# Altium schematic symbol library FROGSBORO.SchLib: 10 symbols
Pins are listed as number, name and electrical type; pins without a type are passive.

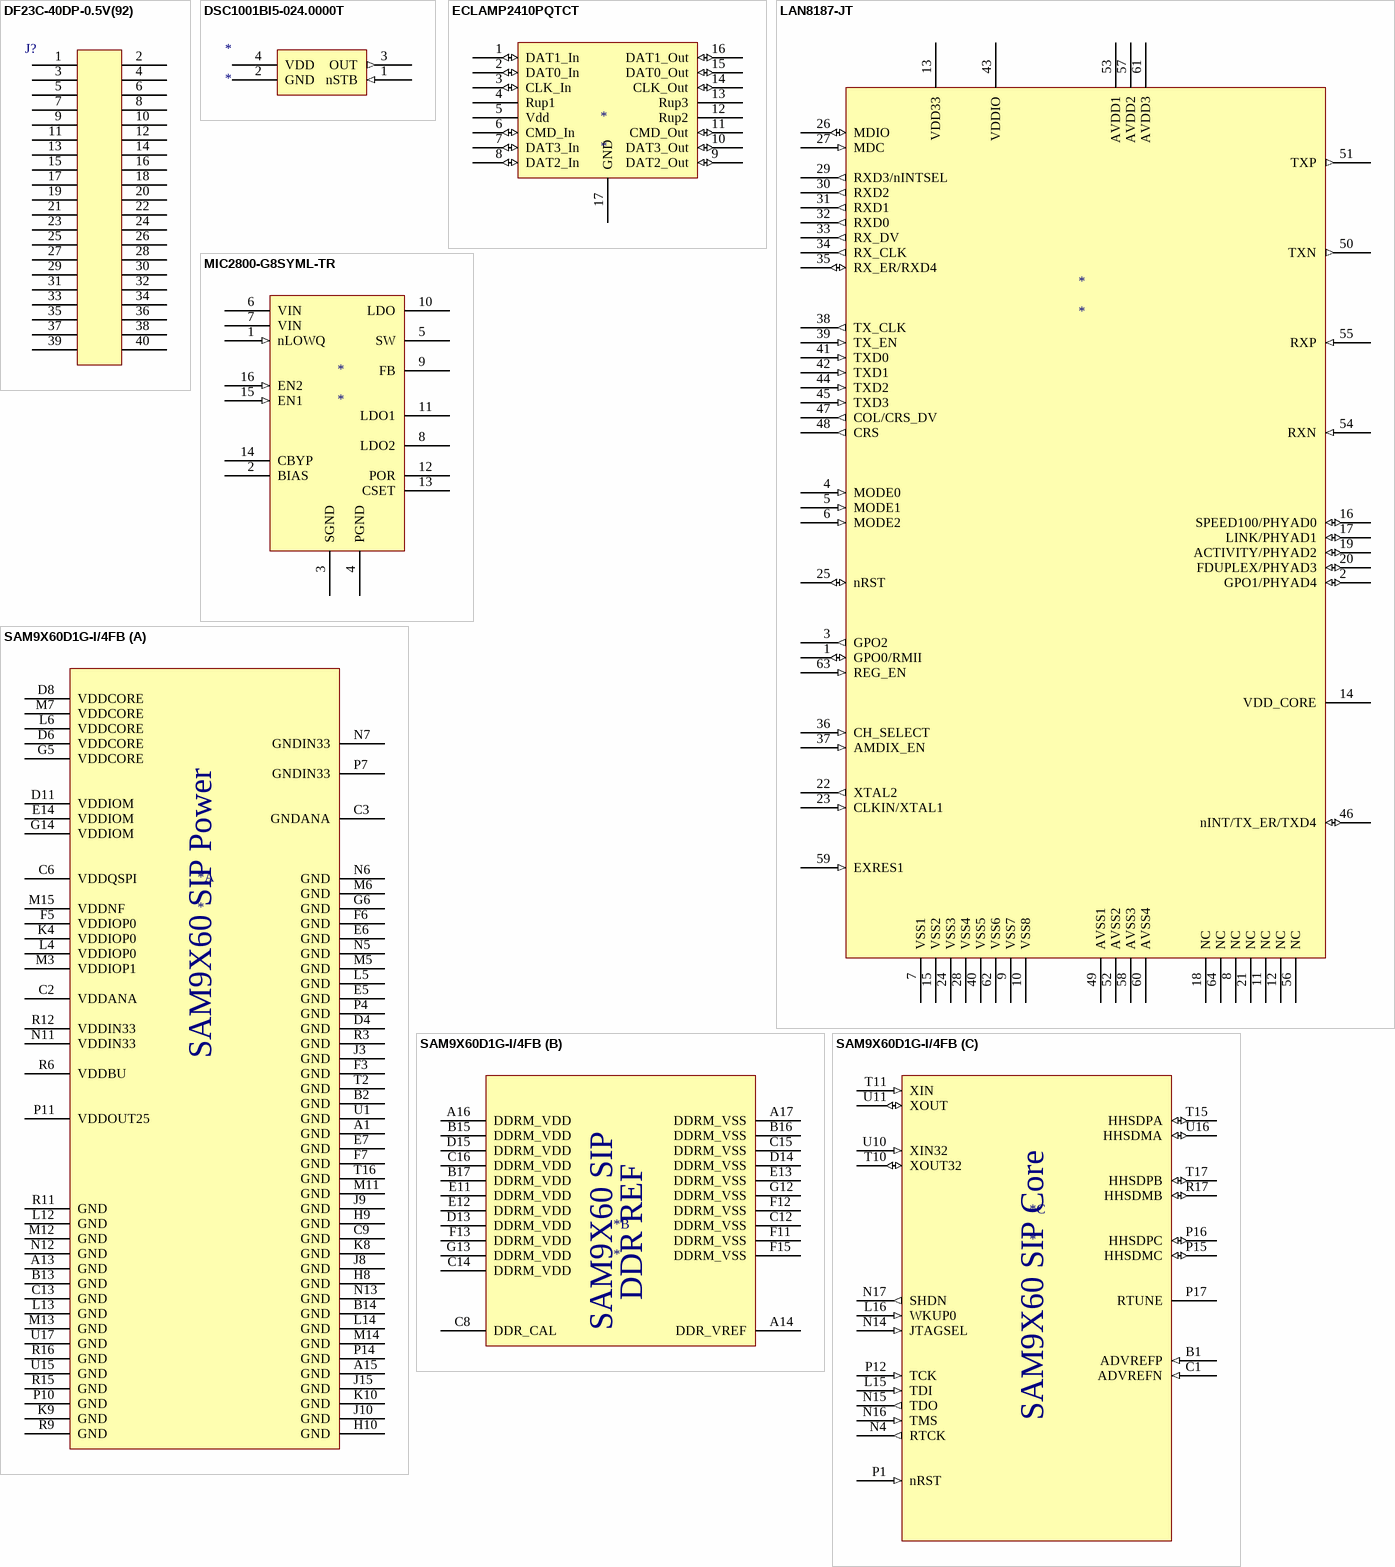
[diagram p0: symbols DF23C-40DP-0.5V(92) to SAM9X60D1G-I/4FB]

## DF23C-40DP-0.5V(92)
designator J?  (value not drawn)
0.5mm Pitch Low-Profile (H=1.5mm) Board to Board / FPC to Board Connectors; Manufacturer: Hirose; Manufacturer Part Number: DF23C-40DP-0.5V(92); Connector Type: Plug,PCB; Number of Positions: 40; Current Rating: 300mA; Voltage Rating: 50V; Insulation Resistance: 500MR; Gender: Male; Mated Stacking Heights: 1.5mm; Row Spacing: 4.3mm; Supplier 1: Digi-Key; RoHS: Yes; Category: Headers and Wire Housings; Stock 1: 419; Pricing 1: 1=1.25000, 10=1.09700, 25=1.03200, 50=0.98900, 100=0.94600, 250=0.86000, 500=0.77400, 1000=0.68800 (USD); Mount: Surface Mount; Contact Plating: Gold; Contact Material: Bronze,Copper Alloy; Housing Color: Black; Housing Material: Polymer; Min Operating Temperature: -35°C; Max Operating Temperature: 85°C; Package Quantity: 2000; Number of Rows: 2; Packaging: Tape and Reel; Number of Contacts: 40; Series: DF23; Contact Gender: Male; Termination: SMD/SMT; Orientation: Straight; Pitch: 0.5mm; Lead Free: Lead Free; REACH SVHC: No SVHC; Flammability Rating: UL94 V-0; RoHS Compliant: Yes; ComponentLink1URL: https://datasheet.ciiva.com/11751/0900766b80f5fb65-11751775.pdf?src-supplier=RSComponents; ComponentLink1Description: https://datasheet.ciiva.com/11751/0900766b80f5fb65-11751775.pdf?src-supplier=RSComponents; ComponentLink2URL: https://datasheet.ciiva.com/397/e68801060-397924.pdf?src-supplier=Digi-Key; ComponentLink2Description: https://datasheet.ciiva.com/397/e68801060-397924.pdf?src-supplier=Digi-Key; ComponentLink3URL: https://datasheet.ciiva.com/13568/e68801060-16897-13568044.pdf?src-supplier=Mouser; ComponentLink3Description: https://datasheet.ciiva.com/13568/e68801060-16897-13568044.pdf?src-supplier=Mouser; ComponentLink4URL: https://datasheet.ciiva.com/8038/e68801060-8038886.pdf?src-supplier=Element14; ComponentLink4Description: https://datasheet.ciiva.com/8038/e68801060-8038886.pdf?src-supplier=Element14; Supplier Part Number 1: H124750CT-ND
footprint DF23C-40DP-0.5V(92)
pins: 1, 2, 3, 4, 5, 6, 7, 8, 9, 10, 11, 12, 13, 14, 15, 16, 17, 18, 19, 20, 21, 22, 23, 24, 25, 26, 27, 28, 29, 30, 31, 32, 33, 34, 35, 36, 37, 38, 39, 40

## DSC1001BI5-024.0000T
designator *
Low-Power Precision CMOS Oscillator 24MHz 1.7V to 3.6V 10ppm 4-Pin Surface Mount T/R; Manufacturer: Microchip; Manufacturer Part Number: DSC1001BI5-024.0000T; Operating Supply Voltage: 3.3V; Load Capacitance: 15pF; Max Supply Current: 6.3mA; Max Duty Cycle: 55%; Supplier 1: Digi-Key; RoHS: Yes; Category: Timers and Oscillators; Pricing 1: 1000=1.95000 (USD); Mount: Surface Mount; Case/Package: SMD/SMT; Min Operating Temperature: -40°C; Max Operating Temperature: 85°C; Frequency: 24MHz; Packaging: Tape and Reel; Package Quantity: 1000; Max Supply Voltage: 3.6V; Min Supply Voltage: 1.7V; Frequency Stability: 10ppm; Termination: Solder; Length: 0.197inch; Width: 0.126inch; Height: 0.035inch; Ratings: AEC-Q100; ComponentLink1URL: http://www.mouser.com/ds/2/268/DSC1001_Datasheet-775857.pdf?src-supplier=Mouser; ComponentLink1Description: http://www.mouser.com/ds/2/268/DSC1001_Datasheet-775857.pdf?src-supplier=Mouser; ComponentLink2URL: http://www.microchip.com/mymicrochip/filehandler.aspx?ddocname=en576698&src-supplier=Digi-Key; ComponentLink2Description: http://www.microchip.com/mymicrochip/filehandler.aspx?ddocname=en576698&src-supplier=Digi-Key; Supplier Part Number 1: DSC1001BI5-024.0000T-ND
footprint DSC1001BI5
pins: 1 nSTB (in), 2 GND (power), 3 OUT (out), 4 VDD (power)

## ECLAMP2410PQTCT
designator *
ESD Suppressors / TVS Diodes 5V 6-Line AEC-Q100 SLP4016P16; Manufacturer: Semtech; Manufacturer Part Number: ECLAMP2410PQTCT; Number of Channels: 8; ESD Protection: Yes; Supplier 1: Digi-Key; RoHS: Yes; Category: Uncategorized; Stock 1: 575; Pricing 1: 1=1.60000, 10=1.42800, 100=1.11320, 500=0.91960, 1000=0.72600 (USD); Min Operating Temperature: -40°C; Max Operating Temperature: 125°C; Package Quantity: 1; Packaging: Tape and Reel; Length: 0.157inch; Width: 0.063inch; Height: 0.026inch; RoHS Compliant: Yes; ComponentLink1URL: https://datasheet.ciiva.com/29369/eclamp2410pq-29369285.pdf?src-supplier=Digi-Key; ComponentLink1Description: https://datasheet.ciiva.com/29369/eclamp2410pq-29369285.pdf?src-supplier=Digi-Key; ComponentLink2URL: https://datasheet.ciiva.com/29369/eclamp2410pq-29369287.pdf?src-supplier=Digi-Key; ComponentLink2Description: https://datasheet.ciiva.com/29369/eclamp2410pq-29369287.pdf?src-supplier=Digi-Key; ComponentLink3URL: https://datasheet.ciiva.com/29369/eclamp2410pq-29369288.pdf?src-supplier=Digi-Key; ComponentLink3Description: https://datasheet.ciiva.com/29369/eclamp2410pq-29369288.pdf?src-supplier=Digi-Key; Supplier Part Number 1: ECLAMP2410PQTCTCT-ND
footprint SON50P160X65_HS-17N (SON, 16-Leads, Body 4.00x1.60mm, Pitch 0.50mm, Thermal Pad 3.20x0.33mm, IPC Medium Density)
pins: 1 DAT1_In (io), 2 DAT0_In (io), 3 CLK_In (io), 4 Rup1, 5 Vdd (power), 6 CMD_In (io), 7 DAT3_In (io), 8 DAT2_In (io), 9 DAT2_Out (io), 10 DAT3_Out (io), 11 CMD_Out (io), 12 Rup2, 13 Rup3, 14 CLK_Out (io), 15 DAT0_Out (io), 16 DAT1_Out (io), 17 GND (power)

## LAN8187-JT
designator *
IC TXRX ETHERNET 64TQFP; Manufacturer: Microchip; Manufacturer Part Number: LAN8187-JT; Min Supply Voltage: 3V; Max Supply Voltage: 3.6V; Number of Transceivers: 1; Max Supply Current: 81.6mA; Data Rate: 100Mbps; Operating Supply Voltage: 3.3V; Supplier 1: Digi-Key; RoHS: No; Category: Ethernet Interface ICs; Stock 1: 373; Pricing 1: 1=2.19000, 25=1.82320, 100=1.80000 (USD); Mount: Surface Mount; Case/Package: TQFP; Number of Pins: 64; Min Operating Temperature: 0°C; Max Operating Temperature: 70°C; Packaging: Tray; Number of Channels: 1; Package Quantity: 160; Series: *; Radiation Hardening: No; Lead Free: Lead Free; RoHS Compliant: No; ComponentLink1URL: https://datasheet.ciiva.com/26818/getdatasheetpartid-761293-26818791.pdf?src-supplier=Verical; ComponentLink1Description: https://datasheet.ciiva.com/26818/getdatasheetpartid-761293-26818791.pdf?src-supplier=Verical; Supplier Part Number 1: LAN8187-JT-ND
pins: 1 GPO0/RMII (io), 2 GPO1/PHYAD4 (io), 3 GPO2 (out), 4 MODE0 (in), 5 MODE1 (in), 6 MODE2 (in), 7 VSS1 (power), 8 NC, 9 VSS7 (power), 10 VSS8 (power), 11 NC, 12 NC, 13 VDD33 (power), 14 VDD_CORE (power), 15 VSS2 (power), 16 SPEED100/PHYAD0 (io), 17 LINK/PHYAD1 (io), 18 NC, 19 ACTIVITY/PHYAD2 (io), 20 FDUPLEX/PHYAD3 (io), 21 NC, 22 XTAL2 (out), 23 CLKIN/XTAL1 (in), 24 VSS3 (power), 25 nRST (io), 26 MDIO (io), 27 MDC (in), 28 VSS4 (power), 29 RXD3/nINTSEL (out), 30 RXD2 (out), 31 RXD1 (out), 32 RXD0 (out), 33 RX_DV (out), 34 RX_CLK (out), 35 RX_ER/RXD4 (io), 36 CH_SELECT (in), 37 AMDIX_EN (in), 38 TX_CLK (out), 39 TX_EN (in), 40 VSS5 (power), 41 TXD0 (in), 42 TXD1 (in), 43 VDDIO (power), 44 TXD2 (in), 45 TXD3 (in), 46 nINT/TX_ER/TXD4 (io), 47 COL/CRS_DV (out), 48 CRS (out), 49 AVSS1 (power), 50 TXN (out), 51 TXP (out), 52 AVSS2 (power), 53 AVDD1 (power), 54 RXN (in), 55 RXP (in), 56 NC, 57 AVDD2 (power), 58 AVSS3 (power), 59 EXRES1 (in), 60 AVSS4 (power), 61 AVDD3 (power), 62 VSS6 (power), 63 REG_EN (in), 64 NC

## MIC2800-G8SYML-TR
designator *
DC-DC + 2 Linear Regulators with LowQ Mode & POR 16 VQFN 3x3x0.90mm T/R RoHS Compliant: Yes; Manufacturer: Microchip; Manufacturer Part Number: MIC2800-G8SYML-TR; Supplier 1: Digi-Key; RoHS: Yes; Category: Power Management ICs; Stock 1: 5000; Pricing 1: 5000=1.90500 (USD); Supplier Part Number 1: MIC2800-G8SYML-TR-ND
footprint QFN50P300X300X90-16N (QFN, 16-Leads, Body 3.00x3.00mm, Pitch 0.50mm, IPC Medium Density)
pins: 1 nLOWQ (in), 2 BIAS, 3 SGND (power), 4 PGND (power), 5 SW (power), 6 VIN (power), 7 VIN (power), 8 LDO2 (power), 9 FB, 10 LDO (power), 11 LDO1 (power), 12 POR (oc), 13 CSET, 14 CBYP, 15 EN1 (in), 16 EN2 (in)

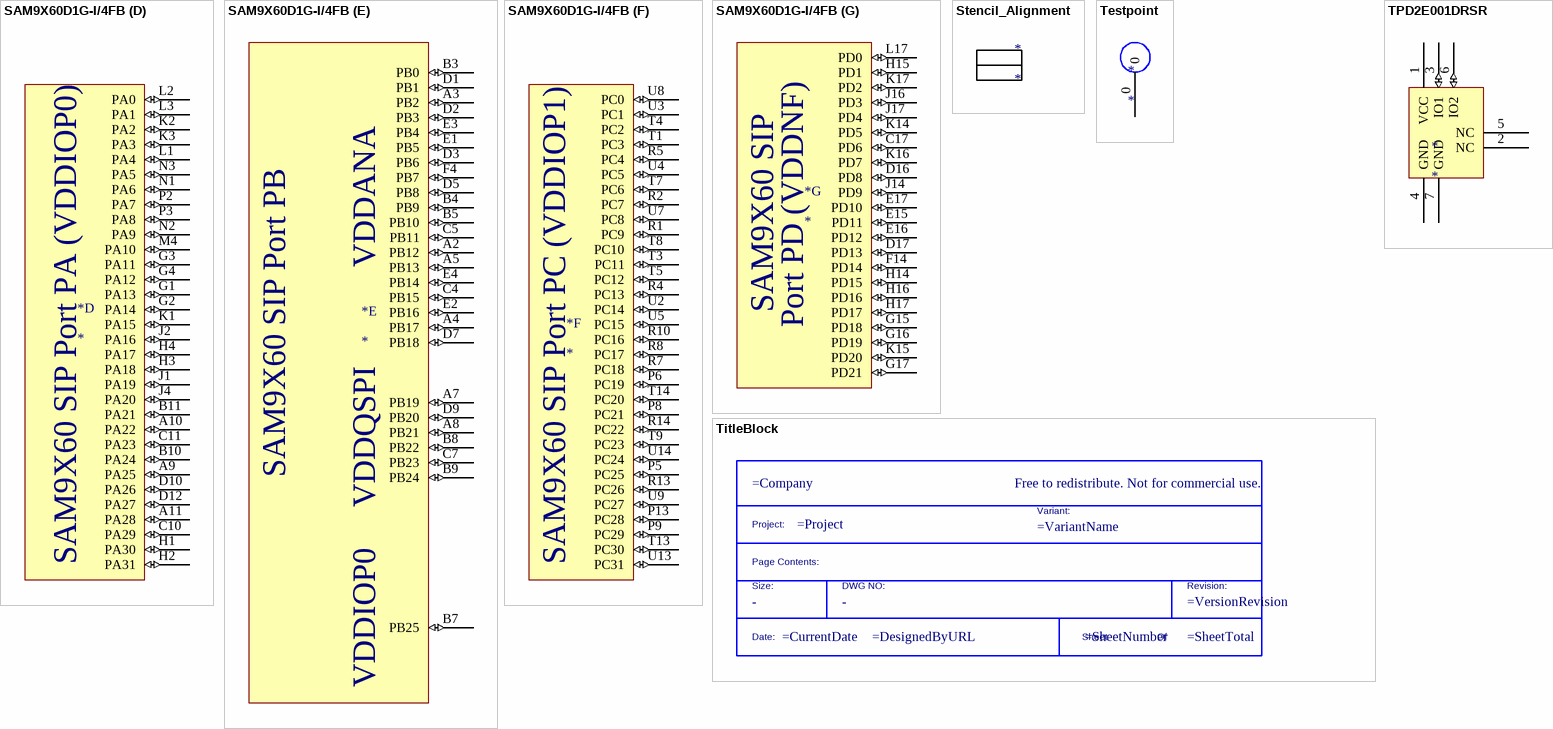
[diagram p1: symbols SAM9X60D1G-I/4FB to TPD2E001DRSR]

## SAM9X60D1G-I/4FB
designator *
ARM926 MPU, 1GBIT DDR2, BGA, IND TEMP; Manufacturer: Microchip; Manufacturer Part Number: SAM9X60D6K-I/4GB; Supplier 1: Digi-Key; RoHS: No; Category: Microprocessors; Stock 1: 237; Pricing 1: 1=10.63000, 25=9.74040, 100=8.82060 (USD); Supplier Part Number 1: 150-SAM9X60D6K-I/4GB-ND
footprint BGA233C80P17X17_1400X1400X120 (BGA, 233-Leads, Body 14.00x14.00mmx1.20mm, Pitch 0.80mm)
part A pins: A1 GND (power), A13 GND (power), A15 GND (power), B2 GND (power), B13 GND (power), B14 GND (power), C2 VDDANA (power), C3 GNDANA (power), C6 VDDQSPI (power), C9 GND (power), C13 GND (power), D4 GND (power), D6 VDDCORE (power), D8 VDDCORE (power), D11 VDDIOM (power), E5 GND (power), E6 GND (power), E7 GND (power), E14 VDDIOM (power), F3 GND (power), F5 VDDIOP0 (power), F6 GND (power), F7 GND (power), G5 VDDCORE (power), G6 GND (power), G14 VDDIOM (power), H8 GND (power), H9 GND (power), H10 GND (power), J3 GND (power), J8 GND (power), J9 GND (power), J10 GND (power), J15 GND (power), K4 VDDIOP0 (power), K8 GND (power), K9 GND (power), K10 GND (power), L4 VDDIOP0 (power), L5 GND (power), L6 VDDCORE (power), L12 GND (power), L13 GND (power), L14 GND (power), M3 VDDIOP1 (power), M5 GND (power), M6 GND (power), M7 VDDCORE (power), M11 GND (power), M12 GND (power), M13 GND (power), M14 GND (power), M15 VDDNF (power), N5 GND (power), N6 GND (power), N7 GNDIN33 (power), N11 VDDIN33 (power), N12 GND (power), N13 GND (power), P4 GND (power), P7 GNDIN33 (power), P10 GND (power), P11 VDDOUT25 (power), P14 GND (power), R3 GND (power), R6 VDDBU (power), R9 GND (power), R11 GND (power), R12 VDDIN33 (power), R15 GND (power), R16 GND (power), T2 GND (power), T16 GND (power), U1 GND (power), U15 GND (power), U17 GND (power)
part B pins: A14 DDR_VREF (power), A16 DDRM_VDD (power), A17 DDRM_VSS (power), B15 DDRM_VDD (power), B16 DDRM_VSS (power), B17 DDRM_VDD (power), C8 DDR_CAL, C12 DDRM_VSS (power), C14 DDRM_VDD (power), C15 DDRM_VSS (power), C16 DDRM_VDD (power), D13 DDRM_VDD (power), D14 DDRM_VSS (power), D15 DDRM_VDD (power), E11 DDRM_VDD (power), E12 DDRM_VDD (power), E13 DDRM_VSS (power), F11 DDRM_VSS (power), F12 DDRM_VSS (power), F13 DDRM_VDD (power), F15 DDRM_VSS (power), G12 DDRM_VSS (power), G13 DDRM_VDD (power)
part C pins: B1 ADVREFP (in), C1 ADVREFN (in), L15 TDI (in), L16 WKUP0 (in), N4 RTCK (out), N14 JTAGSEL (in), N15 TDO (out), N16 TMS (in), N17 SHDN (out), P1 nRST (in), P12 TCK (in), P15 HHSDMC (io), P16 HHSDPC (io), P17 RTUNE, R17 HHSDMB (io), T10 XOUT32 (io), T11 XIN (in), T15 HHSDPA (io), T17 HHSDPB (io), U10 XIN32 (in), U11 XOUT (io), U16 HHSDMA (io)
part D pins: A9 PA25 (io), A10 PA22 (io), A11 PA28 (io), B10 PA24 (io), B11 PA21 (io), C10 PA29 (io), C11 PA23 (io), D10 PA26 (io), D12 PA27 (io), G1 PA13 (io), G2 PA14 (io), G3 PA11 (io), G4 PA12 (io), H1 PA30 (io), H2 PA31 (io), H3 PA18 (io), H4 PA17 (io), J1 PA19 (io), J2 PA16 (io), J4 PA20 (io), K1 PA15 (io), K2 PA2 (io), K3 PA3 (io), L1 PA4 (io), L2 PA0 (io), L3 PA1 (io), M4 PA10 (io), N1 PA6 (io), N2 PA9 (io), N3 PA5 (io), P2 PA7 (io), P3 PA8 (io)
part E pins: A2 PB12 (io), A3 PB2 (io), A4 PB17 (io), A5 PB13 (io), A7 PB19 (io), A8 PB21 (io), B3 PB0 (io), B4 PB9 (io), B5 PB10 (io), B7 PB25 (io), B8 PB22 (io), B9 PB24 (io), C4 PB15 (io), C5 PB11 (io), C7 PB23 (io), D1 PB1 (io), D2 PB3 (io), D3 PB6 (io), D5 PB8 (io), D7 PB18 (io), D9 PB20 (io), E1 PB5 (io), E2 PB16 (io), E3 PB4 (io), E4 PB14 (io), F4 PB7 (io)
part F pins: P5 PC25 (io), P6 PC19 (io), P8 PC21 (io), P9 PC29 (io), P13 PC28 (io), R1 PC9 (io), R2 PC7 (io), R4 PC13 (io), R5 PC4 (io), R7 PC18 (io), R8 PC17 (io), R10 PC16 (io), R13 PC26 (io), R14 PC22 (io), T1 PC3 (io), T3 PC11 (io), T4 PC2 (io), T5 PC12 (io), T7 PC6 (io), T8 PC10 (io), T9 PC23 (io), T13 PC30 (io), T14 PC20 (io), U2 PC14 (io), U3 PC1 (io), U4 PC5 (io), U5 PC15 (io), U7 PC8 (io), U8 PC0 (io), U9 PC27 (io), U13 PC31 (io), U14 PC24 (io)
part G pins: C17 PD6 (io), D16 PD8 (io), D17 PD13 (io), E15 PD11 (io), E16 PD12 (io), E17 PD10 (io), F14 PD14 (io), G15 PD18 (io), G16 PD19 (io), G17 PD21 (io), H14 PD15 (io), H15 PD1 (io), H16 PD16 (io), H17 PD17 (io), J14 PD9 (io), J16 PD3 (io), J17 PD4 (io), K14 PD5 (io), K15 PD20 (io), K16 PD7 (io), K17 PD2 (io), L17 PD0 (io)
part A text: SAM9X60 SIP Power
part B text: DDR REF; SAM9X60 SIP
part C text: SAM9X60 SIP Core
part D text: SAM9X60 SIP Port PA (VDDIOP0)
part E text: SAM9X60 SIP Port PB
part F text: SAM9X60 SIP Port PC (VDDIOP1)
part G text: SAM9X60 SIP; Port PD (VDDNF)

## Stencil_Alignment
designator *
footprint Stencil_Alignment
pins: 0

## Testpoint
designator *  (no BOM)
footprint Testpoint
pins: 0

## TitleBlock
designator *  (value not drawn)  (graphical)
Custom Title Block; DWG: -; Size: -
text: Free to redistribute. Not for commercial use.; Project:; Variant:; Page Contents:; Size:; DWG NO:; Revision:; Date:; Sheet; Of

## TPD2E001DRSR
designator *
Dual 1.5-pF, 5.5-V, ±8-kV ESD protection diode with 1-nA max leakage & VCC pin for USB 2.0 6-SON -40 to 85; Manufacturer: Texas Instruments; Manufacturer Part Number: TPD2E001DRSR; Direction: Unidirectional; Operating Supply Voltage: 5.5V; Number of Channels: 2; Capacitance: 1.5pF; Min Breakdown Voltage: 11V; Power Line Protection: Yes; Clamping Voltage: 105.5V; Max Reverse Leakage Current: 1nA; Test Current: 10mA; Interface: LVDS,USB,Ethernet; Supplier 1: Arrow Electronics; RoHS: Yes; Category: Interface ICs; Stock 1: 1000; Pricing 1: 1=0.61530, 10=0.52960, 25=0.52440, 100=0.39900, 250=0.39500, 500=0.27490, 1000=0.24620, 1000=0.21900, 2000=0.21460 (USD); Number of Pins: 6; Contact Plating: Gold; Min Operating Temperature: -40°C; Max Operating Temperature: 85°C; Packaging: Tape and Reel; Package Quantity: 1; Number of Bidirectional Channels: 2; Reverse Standoff Voltage: 5.5V; Termination: SMD/SMT; ESD Protection: Yes; Leakage Current: 1nA; Element Configuration: Dual; Length: 3mm; Width: 1.3mm; Height: 0.55mm; Depth: 3mm; Radiation Hardening: No; REACH SVHC: No SVHC; Lead Free: Lead Free; RoHS Compliant: Yes; ComponentLink1URL: https://datasheet.ciiva.com/15134/getdatasheetpartid-321682-15134763.pdf?src-supplier=Verical; ComponentLink1Description: https://datasheet.ciiva.com/15134/getdatasheetpartid-321682-15134763.pdf?src-supplier=Verical; ComponentLink2URL: https://datasheet.ciiva.com/1268/1851973-1268376.pdf?src-supplier=Element14; ComponentLink2Description: https://datasheet.ciiva.com/1268/1851973-1268376.pdf?src-supplier=Element14; ComponentLink3URL: https://datasheet.ciiva.com/339/tpd2e001-339042.pdf?src-supplier=Digi-Key; ComponentLink3Description: https://datasheet.ciiva.com/339/tpd2e001-339042.pdf?src-supplier=Digi-Key; ComponentLink4URL: https://datasheet.ciiva.com/339/tpd2e001-339041.pdf?src-supplier=Digi-Key; ComponentLink4Description: https://datasheet.ciiva.com/339/tpd2e001-339041.pdf?src-supplier=Digi-Key; ComponentLink5URL: https://datasheet.ciiva.com/339/tpd2e001-339043.pdf?src-supplier=Digi-Key; ComponentLink5Description: https://datasheet.ciiva.com/339/tpd2e001-339043.pdf?src-supplier=Digi-Key; ComponentLink6URL: https://datasheet.ciiva.com/25955/tpd2e001-25955452.pdf?src-supplier=Avnet+Europe; ComponentLink6Description: https://datasheet.ciiva.com/25955/tpd2e001-25955452.pdf?src-supplier=Avnet+Europe; Supplier Part Number 1: TPD2E001DRSR
footprint SON95P300X80_HS-7N (SON, 6-Leads, Body 3.00x3.00mm, Pitch 0.95mm, Thermal Pad 1.90x1.20mm, IPC Medium Density)
pins: 1 VCC (power), 2 NC, 3 IO1 (io), 4 GND (power), 5 NC, 6 IO2 (io), 7 GND (power)